# Altium footprint library PCB - CONNECTOR - SAMTEC IPL1-120-01-XX-D-RA.PCBLIB: 1 footprints
Each footprint in its own frame and in the unit in brackets; x right, y up, seen from the top. Pads: shape width x height; smd on the part's side, far side on the other; paste and mask are expansions set on the pad; w line width, h text height; cw(c..) or ccw(c..) is an arc to the next point about the centre after c.
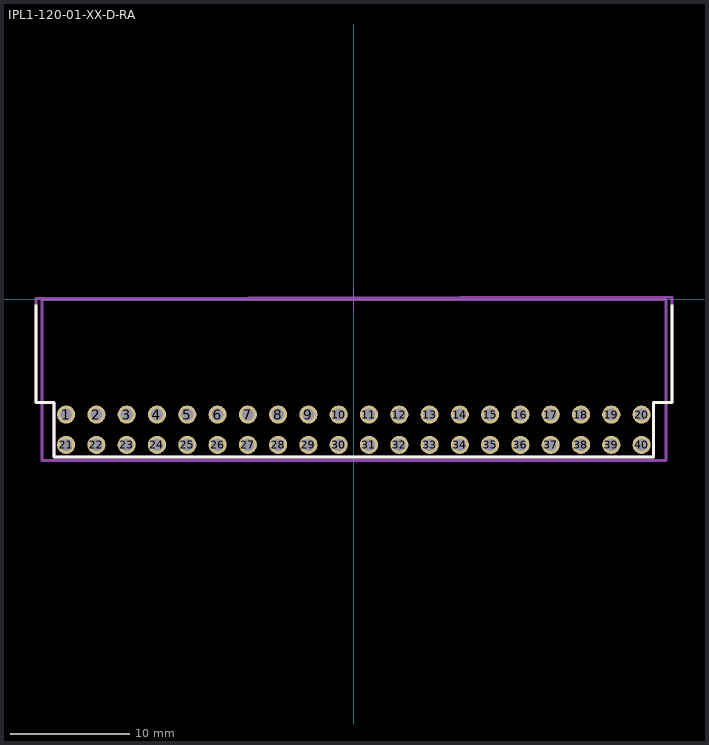
[diagram p0: the footprint, top view; thin cyan lines are the x and y axes]

## IPL1-120-01-XX-D-RA [mil]
pads (40):
  round 60 hole 40 mask+3: 1(-950,-380) 2(-850,-380) 3(-750,-380) 4(-650,-380) 5(-550,-380) 6(-450,-380) 7(-350,-380) 8(-250,-380) 9(-150,-380) 10(-50,-380) 11(50,-380) 12(150,-380) 13(250,-380) 14(350,-380) 15(450,-380) 16(550,-380) 17(650,-380) 18(750,-380) 19(850,-380) 20(950,-380) 21(-950,-480) 22(-850,-480) 23(-750,-480) 24(-650,-480) 25(-550,-480) 26(-450,-480) 27(-350,-480) 28(-250,-480) 29(-150,-480) 30(-50,-480) 31(50,-480) 32(150,-480) 33(250,-480) 34(350,-480) 35(450,-480) 36(550,-480) 37(650,-480) 38(750,-480) 39(850,-480) 40(950,-480)
Top Overlay:
  lines w10: -1050,-20 -1050,-340 -990,-340 -990,-520 990,-520 990,-340 1050,-340 1050,-20
Top Assembly:
  lines w10: -1030,-531.5 1030,-531.5 1030,0 -1030,0 -1030,-531.5
Top Courtyard:
  lines w10: -1050.1,3.49 -1050.1,-340.13 -990.1,-340.13 -990.1,-520.13 989.9,-520.13 989.9,-340.13 1049.9,-340.13 1049.9,7.87 ; -1049.16,3.49 1051.18,7.87
Top Designator:
  text ".Designator" at -6.25,-196.72 h118.11
Top Component Center (Mech11):
  lines w3.94: -39.37,0 39.37,0 ; 0,-39.37 0,39.37
3D body "IPL1-120-01-L-D-RA.stp": height 315, standoff -80, extent -1030,-492.5 1030,0